# Altium schematic symbol library SCH_LIB.SchLib: 20 symbols
Pins are listed as number, name and electrical type; pins without a type are passive.

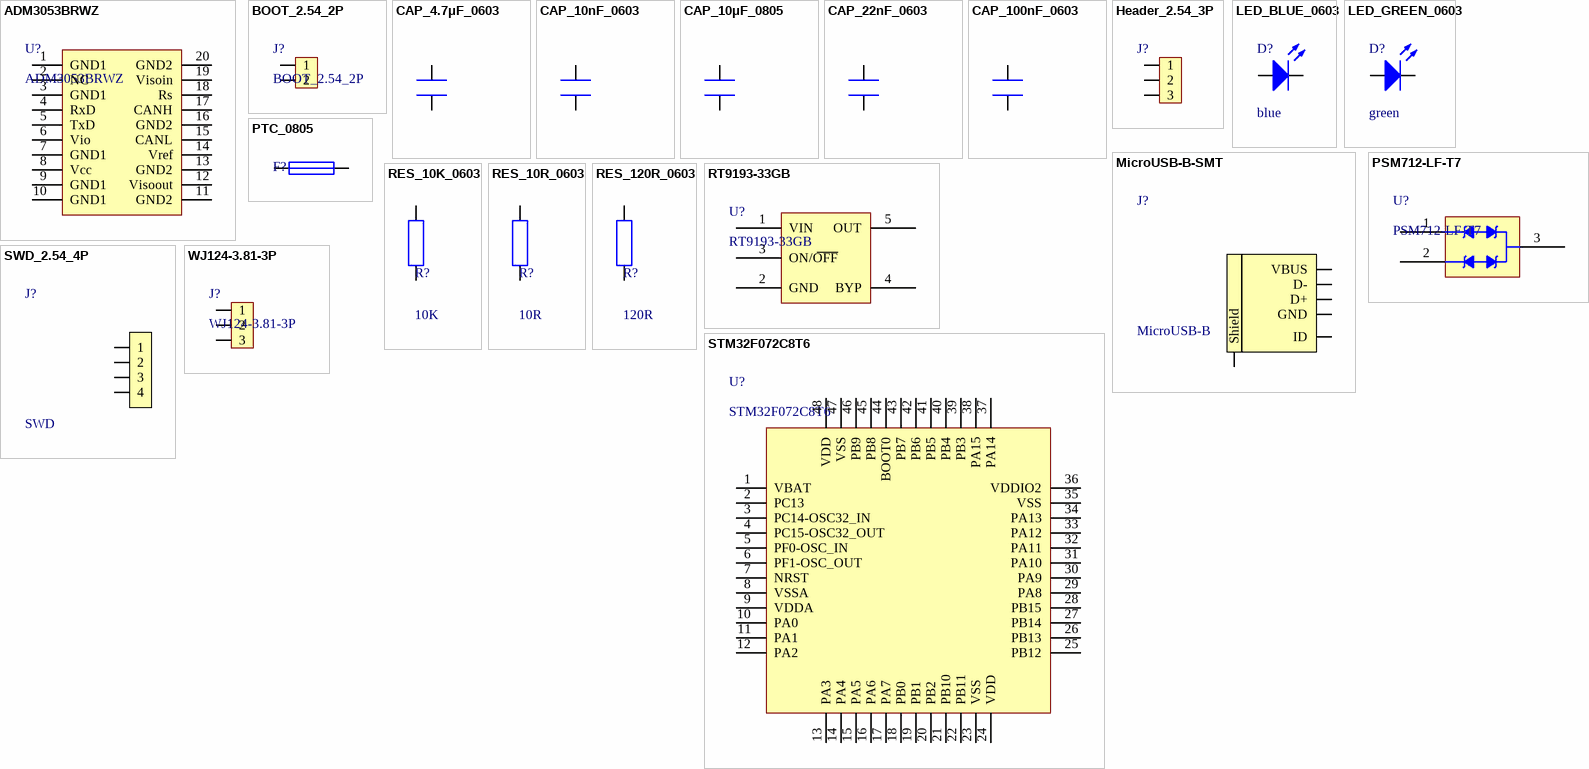
[diagram p0: symbols ADM3053BRWZ to WJ124-3.81-3P]

## ADM3053BRWZ
designator U?
Chip ADM3053BRWZ
footprint SOIC-20
pins: 1 GND1, 2 NC, 3 GND1, 4 RxD, 5 TxD, 6 Vio, 7 GND1, 8 Vcc, 9 GND1, 10 GND1, 11 GND2, 12 Visoout, 13 GND2, 14 Vref, 15 CANL, 16 GND2, 17 CANH, 18 Rs, 19 Visoin, 20 GND2

## BOOT_2.54_2P
designator J?  (no BOM)
footprint BOOT_2.54_2P
pins: 1, 2

## CAP_4.7μF_0603
designator C?, comment 4.7μF
Cap 4.7μF 6.3V X5R 0603
footprint CAP_0603
pins: 1, 2

## CAP_10nF_0603
designator C?, comment 10nF
Cap 10nF 50V X5R 0603
footprint CAP_0603
pins: 1, 2

## CAP_10μF_0805
designator C?, comment 10μF
Cap 10μF 25V X5R 0805
footprint CAP_0805
pins: 1, 2

## CAP_22nF_0603
designator C?, comment 22nF
Cap 22nF 50V X5R 0603
footprint CAP_0603
pins: 1, 2

## CAP_100nF_0603
designator C?, comment 100nF
Cap 100nF 50V X5R 0603
footprint CAP_0603
pins: 1, 2

## Header_2.54_3P
designator J?
Header 2.54 3P
footprint HEADER-2.54-3P
pins: 1, 2, 3

## LED_BLUE_0603
designator D?, comment blue
LED blue 0603
footprint LED_BLUE_0603
pins: A, K

## LED_GREEN_0603
designator D?, comment green
LED green 0603
footprint LED_GREEN_0603
pins: A, K

## MicroUSB-B-SMT
designator J?, comment MicroUSB-B
MicroUSB-B-SMT C10418
footprint Micro-USB-B
pins: 1 VBUS (power), 2 D-, 3 D+, 4 ID, 5 GND (power), 6 Shield (power)

## PSM712-LF-T7
designator U?
TVS; ComponentLink1Description: 供应商链接; ComponentLink1URL: http://www.szlcsc.com/product/details_33642.html; Package: SOT-23(SOT-23-3); Supplier: LC; SuppliersPartNumber: C32677
footprint SOT-23(SOT-23-3)
pins: 1, 2, 3

## PTC_0805
designator F?
PTC 0.5A 0805 C20978
footprint RES_0805
pins: 1, 2

## RES_10K_0603
designator R?, comment 10K
Res SMD 10K 5% 1/10W 0603
footprint RES_0603
pins: 1 0, 2 0

## RES_10R_0603
designator R?, comment 10R
Res SMD 10R 5% 1/10W 0603
footprint RES_0603
pins: 1 0, 2 0

## RES_120R_0603
designator R?, comment 120R
Res SMD 120R 5% 1/10W 0603
footprint RES_0603
pins: 1 0, 2 0

## RT9193-33GB
designator U?
Chip RT9193-33GB LDO Regulator C15651
footprint SOT23-5
pins: 1 VIN, 2 GND, 3 ON/OFF, 4 BYP, 5 OUT

## STM32F072C8T6
designator U?
Chip STM32F072C8T6 C80488
footprint STM-LQFP48_N (QFP, 48-Leads, Body 7x7mm, Pitch 0.5mm, IPC Medium Density)
pins: 1 VBAT, 2 PC13, 3 PC14-OSC32_IN, 4 PC15-OSC32_OUT, 5 PF0-OSC_IN, 6 PF1-OSC_OUT, 7 NRST, 8 VSSA, 9 VDDA, 10 PA0, 11 PA1, 12 PA2, 13 PA3, 14 PA4, 15 PA5, 16 PA6, 17 PA7, 18 PB0, 19 PB1, 20 PB2, 21 PB10, 22 PB11, 23 VSS, 24 VDD, 25 PB12, 26 PB13, 27 PB14, 28 PB15, 29 PA8, 30 PA9, 31 PA10, 32 PA11, 33 PA12, 34 PA13, 35 VSS, 36 VDDIO2, 37 PA14, 38 PA15, 39 PB3, 40 PB4, 41 PB5, 42 PB6, 43 PB7, 44 BOOT0, 45 PB8, 46 PB9, 47 VSS, 48 VDD

## SWD_2.54_4P
designator J?, comment SWD  (no BOM)
SWD 2.54 4P
footprint SWD-2.54-4P
pins: 0 (power) hidden to GND, 1 (power), 2 (power), 3 (power), 4 (power)

## WJ124-3.81-3P
designator J?
WJ124-3.81-3P C36780
footprint WJ124-3.81-3P
pins: 1, 2, 3